# Altium schematic symbol library SCR25XV-070-1R1A022JV.SchLib: 1 symbol
Pins are listed as number, name and electrical type; pins without a type are passive.

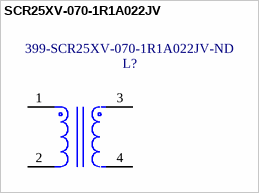
[diagram p0: symbol SCR25XV-070-1R1A022JV]

## SCR25XV-070-1R1A022JV
designator L?  Supplier Part Number 1: 399-SCR25XV-070-1R1A022JV-ND
COMMON MODE CHOKE; PartNumber: SCR25XV-070-1R1A022JV; Manufacturer: KEMET; PartDescription: CMC 5.9MH, 7A, 20.83MOHM; Value: 5.9mH, 7A; Supplier 1: Digi-Key; Package Type: 4 TH
footprint SCR25XV-070-1R1A022JV
pins: 1, 2, 3, 4